# Altium footprint library priit-components.PcbLib: 7 footprints
Each footprint in its own frame and in the unit in brackets; x right, y up, seen from the top. Pads: shape width x height; smd on the part's side, far side on the other; paste and mask are expansions set on the pad; w line width, h text height; cw(c..) or ccw(c..) is an arc to the next point about the centre after c.
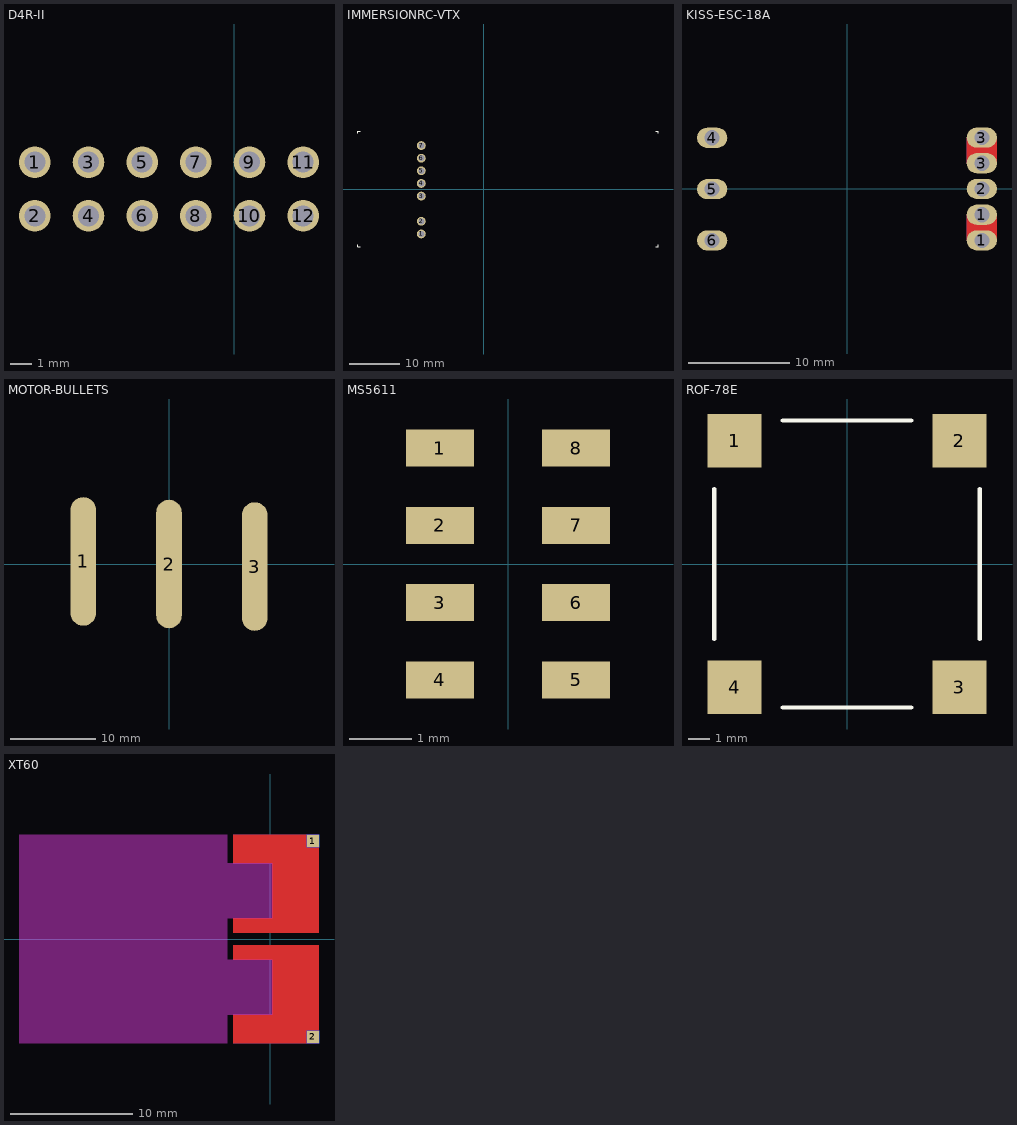
[diagram p0: the footprints below, top view; thin cyan lines are the x and y axes]

## D4R-II [mm] "Receiver"
pads (12):
  round 1.5 hole 1: 1(-9.45,-37.5) 2(-9.45,-40.04) 3(-6.91,-37.5) 4(-6.91,-40.04) 5(-4.37,-37.5) 6(-4.37,-40.04) 7(-1.83,-37.5) 8(-1.83,-40.04) 9(0.71,-37.5) 10(0.71,-40.04) 11(3.25,-37.5) 12(3.25,-40.04)
3D body: height 5.75, standoff 0, extent -10.5,-34.9 10.5,0

## IMMERSIONRC-VTX [mm] "ImmersionRC 600mW video transmitter"
pads (7):
  round 1.75 hole 1.2: 1(-12.36,-8.9) 2(-12.36,-6.4) 3(-12.36,-1.4) 4(-12.36,1.1) 5(-12.36,3.6) 6(-12.36,6.1) 7(-12.36,8.6)
Top Overlay:
  lines w0.2: -24.5,-11.4 -24.9,-11.4 ; -24.5,11.4 -24.9,11.4 ; 34.1,-11.4 34.5,-11.4 ; 34.5,11 34.5,11.4 ; -24.9,-11.4 -24.9,-11 -24.9,-11.4 ; -24.9,11.4 -24.9,11 -24.9,11.4 ; 34.5,-11.4 34.5,-11 34.5,-11.4 ; 34.5,11.4 34.1,11.4 34.5,11.4
3D body: height 10.9, standoff -2.74, extent -24.875,-11.4 34.475,11.4

## KISS-ESC-18A [mm] "KISS ESC 18A"
height 3.4
pads (8):
  oval 3x2 hole 1.5: 1(13.325,-5.1) 1(13.325,-2.56) 2(13.325,0) 3(13.325,2.54) 3(13.325,5.08) 4(-13.375,5.055) 5(-13.375,-0.025) 6(-13.375,-5.105)
Top Layer:
  region: 11.825,5.08 11.825,2.555 14.825,2.555 14.825,5.08
  region: 11.825,-2.56 11.825,-5.085 14.825,-5.085 14.825,-2.56
Bottom Layer:
  region: 11.825,5.075 11.825,2.55 14.825,2.55 14.825,5.075
  region: 11.825,-2.565 11.825,-5.09 14.825,-5.09 14.825,-2.565
Mechanical 15:
  text ".Designator" at -3.35,-0.25 h0.7
3D body: height 3.8, standoff 0, extent -12,-6 12,6

## MOTOR-BULLETS [mm] "2.5mm ESC connector"
height 2.5
pads (3):
  rrect100% 3x15 smd: 1(-10,0.3) 2(0,0) 3(10,-0.3)
3D body: height 2.45, standoff 0, extent -11.225,-7.275 11.225,7.275

## MS5611 [mm] "Barometer"
height 2
pads (8):
  rect 1.1x0.6 smd: 1(-1.1,1.875) 2(-1.1,0.625) 3(-1.1,-0.625) 4(-1.1,-1.875) 5(1.1,-1.875) 6(1.1,-0.625) 7(1.1,0.625) 8(1.1,1.875)
3D body: height 1, standoff -0.05, extent -1.471,-2.494 1.529,2.506

## ROF-78E [mm] "Switching voltage regulator"
pads (4):
  rect 2.5x2.5 smd: 1(-5.25,5.75) 2(5.25,5.75) 3(5.25,-5.75) 4(-5.25,-5.75)
Top Overlay:
  lines w0.2: -6.2,-3.5 -6.2,3.5 ; -3,-6.7 3,-6.7 ; -3,6.7 3,6.7 ; 6.2,-3.5 6.2,3.5
Mechanical 15:
  text ".Designator" at -3.35,-0.15 h0.7
3D body: height 4, standoff 0, extent -6.25,-6.75 6.25,6.75

## XT60 [mm] "XT60 battery connector"
pads (4):
  rect 1x1 smd: 1(3.5,8) 2(3.5,-8)
  rect 1x1 smd far side: 1(3.5,8) 2(3.5,-8)
Top Layer:
  region: -3,8.5 -3,6.2 0.2,6.2 0.2,1.7 -3,1.7 -3,0.5 4,0.5 4,8.5
  region: -3,-8.5 -3,-6.2 0.2,-6.2 0.2,-1.7 -3,-1.7 -3,-0.5 4,-0.5 4,-8.5
Bottom Layer:
  region: -3,8.5 -3,6.2 0.2,6.2 0.2,1.7 -3,1.7 -3,0.5 4,0.5 4,8.5
  region: -3,-8.5 -3,-6.2 0.2,-6.2 0.2,-1.7 -3,-1.7 -3,-0.5 4,-0.5 4,-8.5
Keep-Out Layer:
  board cut-out: -3.5,6.2 0.2,6.2 0.2,1.7 -3.5,1.7
  board cut-out: -3.5,8.5 -3.5,-8.5 -20.5,-8.5 -20.5,8.5
  board cut-out: -3.5,-6.2 0.2,-6.2 0.2,-1.7 -3.5,-1.7
3D body: height 4.06, standoff -4.06, extent -19.977,-7.967 0,7.967